# EAGLE library part HMC349ALP4CETR (library SamacSys_Parts)
RF Switch ICs DC-4 GHZ Hi Isolation Switch Source: Datasheet <https://componentsearchengine.com/Datasheets/1/HMC349ALP4CETR.pdf>
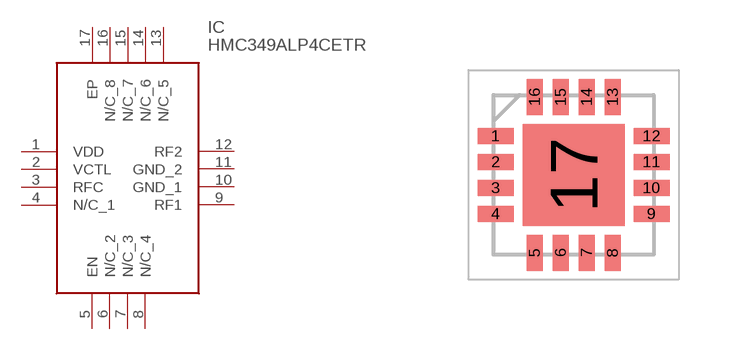
[diagram p0: symbol with the pads of QFN65P400X400X100-17N; footprint QFN65P400X400X100-17N]

Designator prefix IC

## HMC349ALP4CETR (ARROW_PART_NUMBER: HMC349ALP4CETR; ARROW_PRICE-STOCK: https://www.arrow.com/en/products/hmc349alp4cetr/analog-devices?region=nac; DESCRIPTION: RF Switch ICs DC-4 GHZ Hi Isolation Switch; HEIGHT: 1mm; MANUFACTURER_NAME: Analog Devices; MANUFACTURER_PART_NUMBER: HMC349ALP4CETR; MOUSER_PART_NUMBER: 584-HMC349ALP4CETR; MOUSER_PRICE-STOCK: https://www.mouser.co.uk/ProductDetail/Analog-Devices/HMC349ALP4CETR?qs=pceeu5JH%2FH95%252B5rl%2FahpoQ%3D%3D)  [QFN65P400X400X100-17N]
1  VDD
2  VCTL
3  RFC
4  N/C_1
5  EN
6  N/C_2
7  N/C_3
8  N/C_4
9  RF1
10  GND_1
11  GND_2
12  RF2
13  N/C_5
14  N/C_6
15  N/C_7
16  N/C_8
17  EP

## Footprint QFN65P400X400X100-17N (pad centres in mm)
16 qfen+
smd 0.9 x 0.4: 1 -1.95,0.975; 2 -1.95,0.325; 3 -1.95,-0.325; 4 -1.95,-0.975; 9 1.95,-0.975; 10 1.95,-0.325; 11 1.95,0.325; 12 1.95,0.975
smd 0.4 x 0.9: 5 -0.975,-1.95; 6 -0.325,-1.95; 7 0.325,-1.95; 8 0.975,-1.95; 13 0.975,1.95; 14 0.325,1.95; 15 -0.325,1.95; 16 -0.975,1.95
smd 2.55 x 2.55: 17 0,0